# Altium footprint library 691 244 700 0xx.PcbLib: 7 footprints
Each footprint in its own frame and in the unit in brackets; x right, y up, seen from the top. Pads: shape width x height; smd on the part's side, far side on the other; paste and mask are expansions set on the pad; w line width, h text height; cw(c..) or ccw(c..) is an arc to the next point about the centre after c.
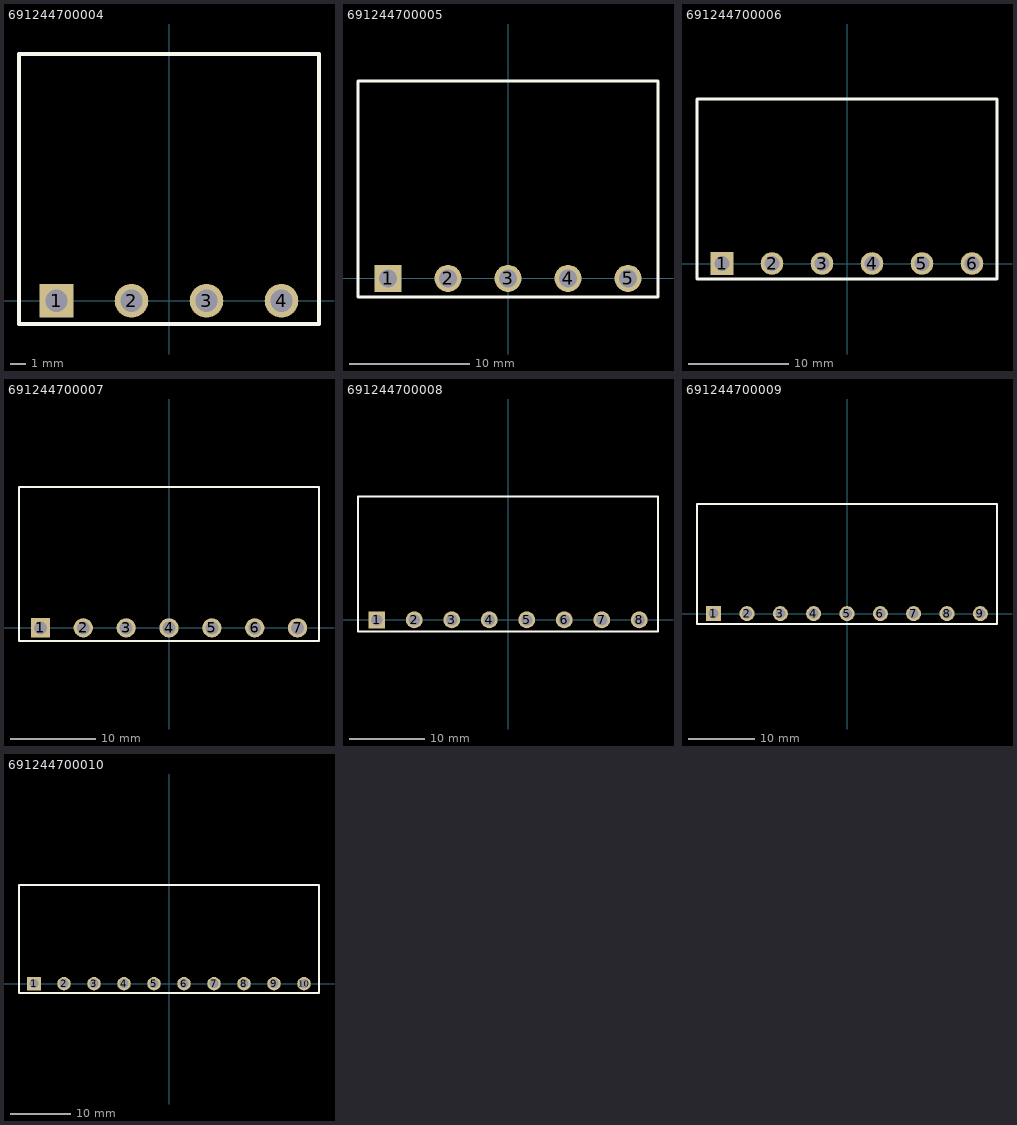
[diagram p0: the footprints below, top view; thin cyan lines are the x and y axes]

## 691244700004 [mm] "Serie 2447 - 5.00 mm _ 4 pins"
height 11.2
pads (4):
  rect 2.25x2.25 hole 1.5: 1(-7.5,0)
  round 2.25 hole 1.5: 2(-2.5,0) 3(2.5,0) 4(7.5,0)
Top Overlay:
  lines w0.254: -10,-1.55 -10,16.45 10,16.45 10,-1.55 -10,-1.55
3D body: height 11.3, standoff -3.9, extent -10.1,-1.6 9.9,16.4

## 691244700005 [mm] "Serie 2447 - 5.00 mm _ 5 pins"
height 11.2
pads (5):
  rect 2.25x2.25 hole 1.5: 1(-10,0)
  round 2.25 hole 1.5: 2(-5,0) 3(0,0) 4(5,0) 5(10,0)
Top Overlay:
  lines w0.254: -12.5,-1.55 12.5,-1.55 12.5,16.45 -12.5,16.45 -12.5,-1.55
3D body: height 11.3, standoff -3.9, extent -12.5,-1.5 12.5,16.5

## 691244700006 [mm] "Serie 2447 - 5.00 mm _ 6 pins"
height 11.2
pads (6):
  rect 2.25x2.25 hole 1.5: 1(-12.5,0)
  round 2.25 hole 1.5: 2(-7.5,0) 3(-2.5,0) 4(2.5,0) 5(7.5,0) 6(12.5,0)
Top Overlay:
  lines w0.254: -15,-1.55 15,-1.55 15,16.45 -15,16.45 -15,-1.55
3D body: height 11.3, standoff -3.9, extent -15,-1.5 15,16.5

## 691244700007 [mm] "Serie 2447 - 5.00 mm _ 7 pins"
height 11.2
pads (7):
  rect 2.25x2.25 hole 1.5: 1(-15,0)
  round 2.25 hole 1.5: 2(-10,0) 3(-5,0) 4(0,0) 5(5,0) 6(10,0) 7(15,0)
Top Overlay:
  lines w0.254: -17.5,-1.55 17.5,-1.55 17.5,16.45 -17.5,16.45 -17.5,-1.55
3D body: height 11.3, standoff -3.9, extent -17.5,-1.5 17.5,16.5

## 691244700008 [mm] "Serie 2447 - 5.00 mm _ 8 pins"
height 11.2
pads (8):
  rect 2.25x2.25 hole 1.5: 1(-17.5,0)
  round 2.25 hole 1.5: 2(-12.5,0) 3(-7.5,0) 4(-2.5,0) 5(2.5,0) 6(7.5,0) 7(12.5,0) 8(17.5,0)
Top Overlay:
  lines w0.254: -20,-1.55 20,-1.55 20,16.45 -20,16.45 -20,-1.55
3D body: height 11.3, standoff -3.9, extent -20,-1.6 20,16.4

## 691244700009 [mm] "Serie 2447 - 5.00 mm _ 9 pins"
height 11.2
pads (9):
  rect 2.25x2.25 hole 1.5: 1(-20,0)
  round 2.25 hole 1.5: 2(-15,0) 3(-10,0) 4(-5,0) 5(0,0) 6(5,0) 7(10,0) 8(15,0) 9(20,0)
Top Overlay:
  lines w0.254: -22.5,-1.55 22.5,-1.55 22.5,16.45 -22.5,16.45 -22.5,-1.55
3D body: height 11.3, standoff -3.9, extent -22.5,-1.5 22.5,16.5

## 691244700010 [mm] "Serie 2447 - 5.00 mm _ 10 pins"
height 11.2
pads (10):
  rect 2.25x2.25 hole 1.5: 1(-22.5,0)
  round 2.25 hole 1.5: 2(-17.5,0) 3(-12.5,0) 4(-7.5,0) 5(-2.5,0) 6(2.5,0) 7(7.5,0) 8(12.5,0) 9(17.5,0) 10(22.5,0)
Top Overlay:
  lines w0.254: -25,-1.55 -25,16.45 25,16.45 25,-1.55 -25,-1.55
3D body: height 11.3, standoff -3.9, extent -25,-1.6 25,16.4